# Altium schematic symbol library Cap0805.SchLib: 6 symbols
Pins are listed as number, name and electrical type; pins without a type are passive.

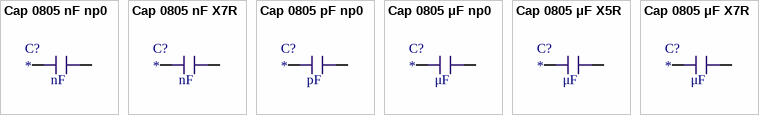
[diagram p0: symbols Cap 0805 nF np0 to Cap 0805 μF X7R]

## Cap 0805 nF np0
designator C?  value nF
Ceramic capacitor 0805 V np0 % μF; Type: 0805; Dielectric: np0; Tolerance: *; Voltage: *
footprint CAP0805
pins: 1, 2

## Cap 0805 nF X7R
designator C?  value nF
Ceramic capacitor 0805 V np0 % μF; Dielectric: X7R; Type: 0805; Tolerance: *; Voltage: *
footprint CAP0805
pins: 1, 2

## Cap 0805 pF np0
designator C?  value pF
Ceramic capacitor 0805 V np0 % μF; Type: 0805; Dielectric: np0; Tolerance: *; Voltage: *
footprint CAP0805
pins: 1, 2

## Cap 0805 μF np0
designator C?  value μF
Ceramic capacitor 0805 V np0 % μF; Type: 0805; Dielectric: np0; Tolerance: *; Voltage: *
footprint CAP0805
pins: 1, 2

## Cap 0805 μF X5R
designator C?  value μF
Ceramic capacitor 0805 V np0 % μF; Dielectric: X5R; Type: 0805; Tolerance: *; Voltage: *
footprint CAP0805
pins: 1, 2

## Cap 0805 μF X7R
designator C?  value μF
Ceramic capacitor 0805 V np0 % μF; Dielectric: X7R; Type: 0805; Tolerance: *; Voltage: *
footprint CAP0805
pins: 1, 2